# Altium footprint library Samsung_KM44C256BP_async_DRAM.PcbLib: 1 footprints
Each footprint in its own frame and in the unit in brackets; x right, y up, seen from the top. Pads: shape width x height; smd on the part's side, far side on the other; paste and mask are expansions set on the pad; w line width, h text height; cw(c..) or ccw(c..) is an arc to the next point about the centre after c.
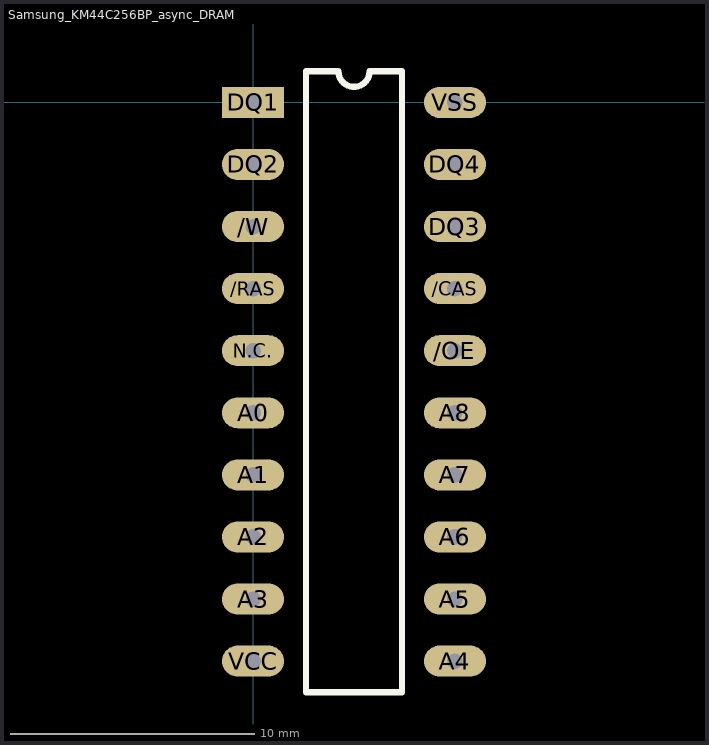
[diagram p0: the footprint, top view; thin cyan lines are the x and y axes]

## Samsung_KM44C256BP_async_DRAM [mil] "Samsung 256K x 4 Asynchronous DRAM"
height 250
pads (20):
  oval 100x50 hole 25: /CAS(325,-300) /OE(325,-400) /RAS(0,-300) /W(0,-200) A0(0,-500) A1(0,-600) A2(0,-700) A3(0,-800) A4(325,-900) A5(325,-800) A6(325,-700) A7(325,-600) A8(325,-500) DQ2(0,-100) DQ3(325,-200) DQ4(325,-100) N.C.(0,-400) VCC(0,-900) VSS(325,0)
  rect 100x50 hole 25: DQ1(0,0)
Top Overlay:
  lines w10: 85,-950 240,-950 240,50 187.5,50 cw(c162.5,50) 137.5,50 85,50 85,-950
3D body: height 145, standoff 0, extent 7.5,-955 315,55